# EAGLE library part PI7C9X2G404SLBFDE (library ds_ic_peripherals)
4-Port, 4-Lane, Slimline PCIe Packet Switch
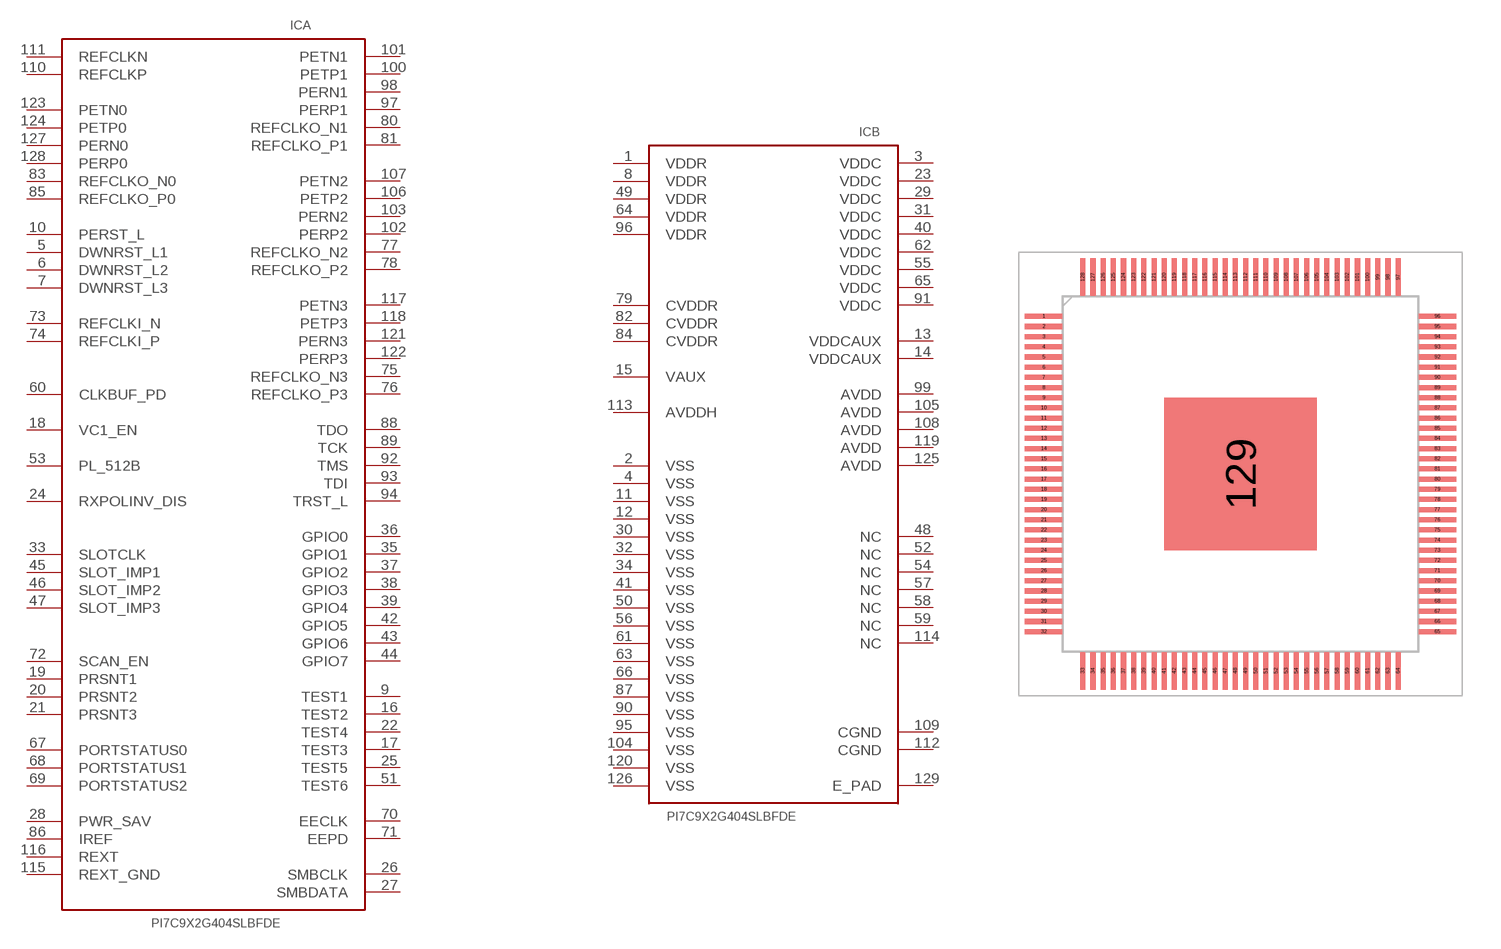
[diagram p16: symbol with the pads of LQFP128; footprint LQFP128]

Designator prefix IC; gates A=PI7C9X2G404SLBFDE B=PI7C9X2G404SLBFDE-PWR

## PI7C9X2G404SLBFDE (DATASHEET: https://www.diodes.com/part/view/PI7C9X2G404SL#section-pcns; DESCRIPTION: PCI EXPRESS GEN 2 PACKET SWITCH; MANUFACTURER: Diodes Incorporated; MPN: PI7C9X2G404SLBFDE; ROHS: YES; VALUE: PI7C9X2G404SL)  [LQFP128]
1  B:VDDR
2  B:VSS
3  B:VDDC
4  B:VSS
5  A:DWNRST_L1
6  A:DWNRST_L2
7  A:DWNRST_L3
8  B:VDDR
9  A:TEST1
10  A:PERST_L
11  B:VSS
12  B:VSS
13  B:VDDCAUX
14  B:VDDCAUX
15  B:VAUX
16  A:TEST2
17  A:TEST3
18  A:VC1_EN
19  A:PRSNT1
20  A:PRSNT2
21  A:PRSNT3
22  A:TEST4
23  B:VDDC
24  A:RXPOLINV_DIS
25  A:TEST5
26  A:SMBCLK
27  A:SMBDATA
28  A:PWR_SAV
29  B:VDDC
30  B:VSS
31  B:VDDC
32  B:VSS
33  A:SLOTCLK
34  B:VSS
35  A:GPIO1
36  A:GPIO0
37  A:GPIO2
38  A:GPIO3
39  A:GPIO4
40  B:VDDC
41  B:VSS
42  A:GPIO5
43  A:GPIO6
44  A:GPIO7
45  A:SLOT_IMP1
46  A:SLOT_IMP2
47  A:SLOT_IMP3
48  B:NC
49  B:VDDR
50  B:VSS
51  A:TEST6
52  B:NC
53  A:PL_512B
54  B:NC
55  B:VDDC
56  B:VSS
57  B:NC
58  B:NC
59  B:NC
60  A:CLKBUF_PD
61  B:VSS
62  B:VDDC
63  B:VSS
64  B:VDDR
65  B:VDDC
66  B:VSS
67  A:PORTSTATUS0
68  A:PORTSTATUS1
69  A:PORTSTATUS2
70  A:EECLK
71  A:EEPD
72  A:SCAN_EN
73  A:REFCLKI_N
74  A:REFCLKI_P
75  A:REFCLKO_N3
76  A:REFCLKO_P3
77  A:REFCLKO_N2
78  A:REFCLKO_P2
79  B:CVDDR
80  A:REFCLKO_N1
81  A:REFCLKO_P1
82  B:CVDDR
83  A:REFCLKO_N0
84  B:CVDDR
85  A:REFCLKO_P0
86  A:IREF
87  B:VSS
88  A:TDO
89  A:TCK
90  B:VSS
91  B:VDDC
92  A:TMS
93  A:TDI
94  A:TRST_L
95  B:VSS
96  B:VDDR
97  A:PERP1
98  A:PERN1
99  B:AVDD
100  A:PETP1
101  A:PETN1
102  A:PERP2
103  A:PERN2
104  B:VSS
105  B:AVDD
106  A:PETP2
107  A:PETN2
108  B:AVDD
109  B:CGND
110  A:REFCLKP
111  A:REFCLKN
112  B:CGND
113  B:AVDDH
114  B:NC
115  A:REXT_GND
116  A:REXT
117  A:PETN3
118  A:PETP3
119  B:AVDD
120  B:VSS
121  A:PERN3
122  A:PERP3
123  A:PETN0
124  A:PETP0
125  B:AVDD
126  B:VSS
127  A:PERN0
128  A:PERP0
129  B:E_PAD

## Footprint LQFP128 (pad centres in mm)
smd 1.475 x 0.2: 1 -7.738,6.2; 2 -7.738,5.8; 3 -7.738,5.4; 4 -7.738,5; 5 -7.738,4.6; 6 -7.738,4.2; 7 -7.738,3.8; 8 -7.738,3.4; 9 -7.738,3; 10 -7.738,2.6; 11 -7.738,2.2; 12 -7.738,1.8; 13 -7.738,1.4; 14 -7.738,1; 15 -7.738,0.6; 16 -7.738,0.2; 17 -7.738,-0.2; 18 -7.738,-0.6; 19 -7.738,-1; 20 -7.738,-1.4; 21 -7.738,-1.8; 22 -7.738,-2.2; 23 -7.738,-2.6; 24 -7.738,-3; 25 -7.738,-3.4; 26 -7.738,-3.8; 27 -7.738,-4.2; 28 -7.738,-4.6; 29 -7.738,-5; 30 -7.738,-5.4; 31 -7.738,-5.8; 32 -7.738,-6.2; 65 7.738,-6.2; 66 7.738,-5.8; 67 7.738,-5.4; 68 7.738,-5; 69 7.738,-4.6; 70 7.738,-4.2; 71 7.738,-3.8; 72 7.738,-3.4; 73 7.738,-3; 74 7.738,-2.6; 75 7.738,-2.2; 76 7.738,-1.8; 77 7.738,-1.4; 78 7.738,-1; 79 7.738,-0.6; 80 7.738,-0.2; 81 7.738,0.2; 82 7.738,0.6; 83 7.738,1; 84 7.738,1.4; 85 7.738,1.8; 86 7.738,2.2; 87 7.738,2.6; 88 7.738,3; 89 7.738,3.4; 90 7.738,3.8; 91 7.738,4.2; 92 7.738,4.6; 93 7.738,5; 94 7.738,5.4; 95 7.738,5.8; 96 7.738,6.2
smd 0.2 x 1.475: 33 -6.2,-7.738; 34 -5.8,-7.738; 35 -5.4,-7.738; 36 -5,-7.738; 37 -4.6,-7.738; 38 -4.2,-7.738; 39 -3.8,-7.738; 40 -3.4,-7.738; 41 -3,-7.738; 42 -2.6,-7.738; 43 -2.2,-7.738; 44 -1.8,-7.738; 45 -1.4,-7.738; 46 -1,-7.738; 47 -0.6,-7.738; 48 -0.2,-7.738; 49 0.2,-7.738; 50 0.6,-7.738; 51 1,-7.738; 52 1.4,-7.738; 53 1.8,-7.738; 54 2.2,-7.738; 55 2.6,-7.738; 56 3,-7.738; 57 3.4,-7.738; 58 3.8,-7.738; 59 4.2,-7.738; 60 4.6,-7.738; 61 5,-7.738; 62 5.4,-7.738; 63 5.8,-7.738; 64 6.2,-7.738; 97 6.2,7.738; 98 5.8,7.738; 99 5.4,7.738; 100 5,7.738; 101 4.6,7.738; 102 4.2,7.738; 103 3.8,7.738; 104 3.4,7.738; 105 3,7.738; 106 2.6,7.738; 107 2.2,7.738; 108 1.8,7.738; 109 1.4,7.738; 110 1,7.738; 111 0.6,7.738; 112 0.2,7.738; 113 -0.2,7.738; 114 -0.6,7.738; 115 -1,7.738; 116 -1.4,7.738; 117 -1.8,7.738; 118 -2.2,7.738; 119 -2.6,7.738; 120 -3,7.738; 121 -3.4,7.738; 122 -3.8,7.738; 123 -4.2,7.738; 124 -4.6,7.738; 125 -5,7.738; 126 -5.4,7.738; 127 -5.8,7.738; 128 -6.2,7.738
smd 5.99 x 5.99: 129 0,0